# EAGLE library part DIP-IC-SOCKET(2X8P-2.54) (library Seeed-OPL-Connector)
320070014
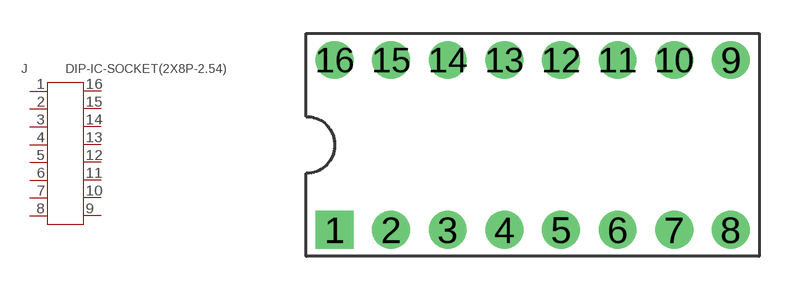
[diagram p42: symbol with the pads of SCK16-2.54-22.32X10.0MM; footprint SCK16-2.54-22.32X10.0MM]

Designator prefix J

## DIP-IC-SOCKET(2X8P-2.54)  [SCK16-2.54-22.32X10.0MM]
1  P$1
2  P$2
3  P$3
4  P$4
5  P$5
6  P$6
7  P$7
8  P$8
9  P$9
10  P$10
11  P$11
12  P$12
13  P$13
14  P$14
15  P$15
16  P$16

## Footprint SCK16-2.54-22.32X10.0MM (pad centres in mm)
drill 1 pad 1.7 square: 1 -8.89,-3.81
drill 1 pad 1.7: 2 -6.35,-3.81; 3 -3.81,-3.81; 4 -1.27,-3.81; 5 1.27,-3.81; 6 3.81,-3.81; 7 6.35,-3.81; 8 8.89,-3.81; 9 8.89,3.81; 10 6.35,3.81; 11 3.81,3.81; 12 1.27,3.81; 13 -1.27,3.81; 14 -3.81,3.81; 15 -6.35,3.81; 16 -8.89,3.81